# EAGLE library part DISC (library mike)
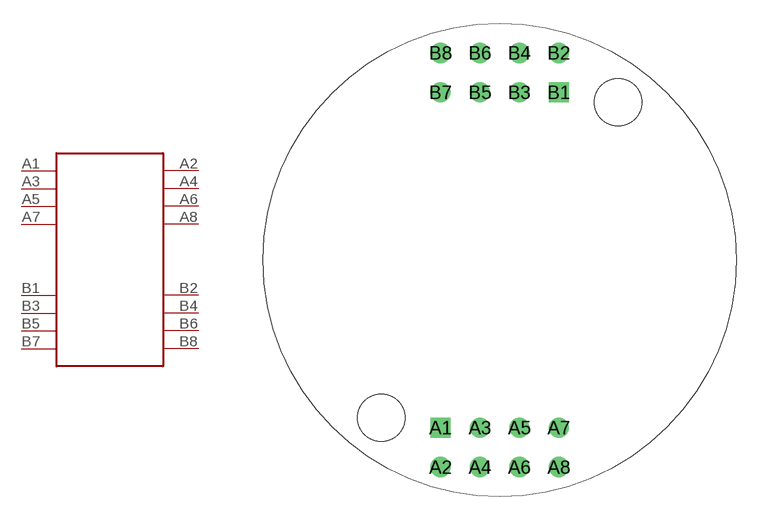
[diagram p9: symbol with the pads of DISC; footprint DISC]

Designator prefix DISC

## DISC  [DISC]
A1  A1
A2  A2
A3  A3
A4  A4
A5  A5
A6  A6
A7  A7
A8  A8
B1  B1
B2  B2
B3  B3
B4  B4
B5  B5
B6  B6
B7  B7
B8  B8

## Footprint DISC (pad centres in mm)
drill 0.8 square: A1 -3.81,-10.795; B1 3.81,10.795
drill 0.8 round: A2 -3.81,-13.335; A3 -1.27,-10.795; A4 -1.27,-13.335; A5 1.27,-10.795; A6 1.27,-13.335; A7 3.81,-10.795; A8 3.81,-13.335; B2 3.81,13.335; B3 1.27,10.795; B4 1.27,13.335; B5 -1.27,10.795; B6 -1.27,13.335; B7 -3.81,10.795; B8 -3.81,13.335
hole 3.048 at -7.62,-10.16
hole 3.048 at 7.62,10.16